# EAGLE library part 4X2 (library 3M_372xx)
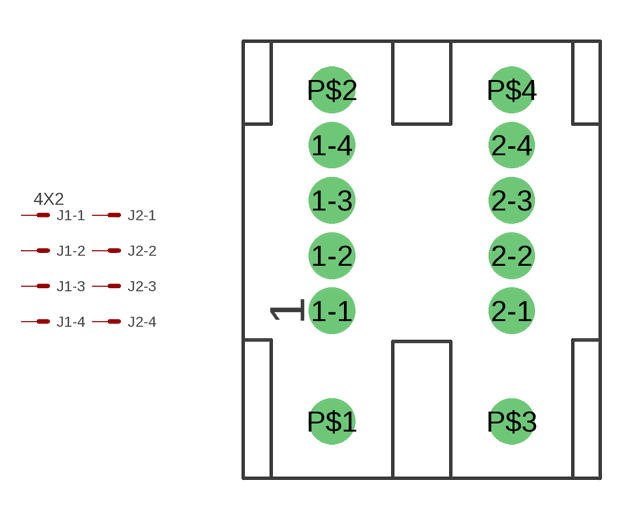
[diagram p1: symbol with the pads of 37208-62A3-004; footprint 37208-62A3-004]

Designator prefix J; gates 1-1=MV 1-3=M 1-2=M 1-4=M 2-1=M 2-2=M 2-3=M 2-4=M

## 4X2  [37208-62A3-004]
1-1  1-1:S  pas
1-2  1-2:S  pas
1-3  1-3:S  pas
1-4  1-4:S  pas
2-1  2-1:S  pas
2-2  2-2:S  pas
2-3  2-3:S  pas
2-4  2-4:S  pas

## Footprint 37208-62A3-004 (pad centres in mm)
drill 1 pad 1.676: 1-1 0,4; 1-2 0,6; 1-3 0,8; 1-4 0,10; 2-1 6.5,4; 2-2 6.5,6; 2-3 6.5,8; 2-4 6.5,10; P$1 0,0; P$2 0,12; P$3 6.5,0; P$4 6.5,12